# Altium schematic symbol library HeaterController.SchLib: 2 symbols
Pins are listed as number, name and electrical type; pins without a type are passive.

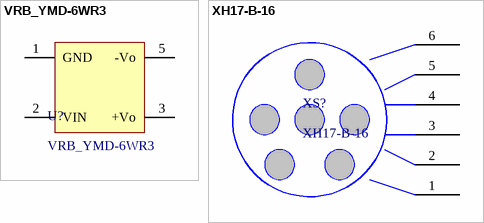
[diagram p0: symbols VRB_YMD-6WR3 to XH17-B-16]

## VRB_YMD-6WR3
designator U?
footprint VRB_YMD-6WR3
pins: 1 GND, 2 VIN, 3 +Vo, 5 -Vo

## XH17-B-16
designator XS?
footprint XH17-B-16
pins: 1, 2, 3, 4, 5, 6